# EAGLE library part FEMALE_1X10 (library be_con_jump)
drawn: Mario Blunk / Blunk electronic
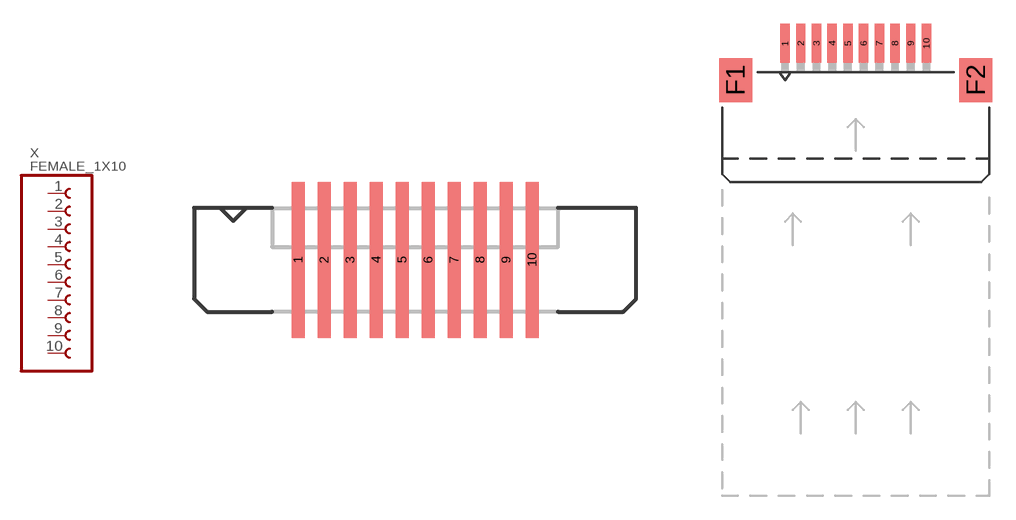
[diagram p13: symbol with the pads of S_FEMALE_1X10_VERTICAL; footprints S_FEMALE_1X10_VERTICAL, S_FEMALE_1X10_HORIZONTAL]

Designator prefix X

## FEMALE_1X10-S-VERTICAL (BOM: YES; COMMISSIONED: 2014-02-25; PART_CODE_BEL: X_PAC_S_FEMALE_1x10_VERTICAL)  [S_FEMALE_1X10_VERTICAL]
1  1  pas
2  2  pas
3  3  pas
4  4  pas
5  5  pas
6  6  pas
7  7  pas
8  8  pas
9  9  pas
10  10  pas

## FEMALE_1X10-S-HORIZONTAL (BOM: YES; COMMISSIONED: 2014-04-08; PART_CODE_BEL: X_PAC_S_FEMALE_1x10_HORIZONTAL)  [S_FEMALE_1X10_HORIZONTAL]
Pads as for S_FEMALE_1X10_VERTICAL

## Footprint S_FEMALE_1X10_VERTICAL (pad centres in mm)
male 1x10 drawn: Mario Blunk / Blunk electronic date: 2014-02-25
smd 0.5 x 6: 1 -4.5,0; 2 -3.5,0; 3 -2.5,0; 4 -1.5,0; 5 -0.5,0; 6 0.5,0; 7 1.5,0; 8 2.5,0; 9 3.5,0; 10 4.5,0

## Footprint S_FEMALE_1X10_HORIZONTAL (pad centres in mm)
drawn: Mario Blunk / Blunk electronic date: 2014-04-08
smd 0.6 x 2.5: 1 -4.5,5.35; 2 -3.5,5.35; 3 -2.5,5.35; 4 -1.5,5.35; 5 -0.5,5.35; 6 0.5,5.35; 7 1.5,5.35; 8 2.5,5.35; 9 3.5,5.35; 10 4.5,5.35
smd 2.1 x 2.8: F1 -7.65,3; F2 7.65,3